# EAGLE library part 25LC1024 (library SMARTBALL_v1)
Microship 25LC1024 1Mbit SPI EEPROM
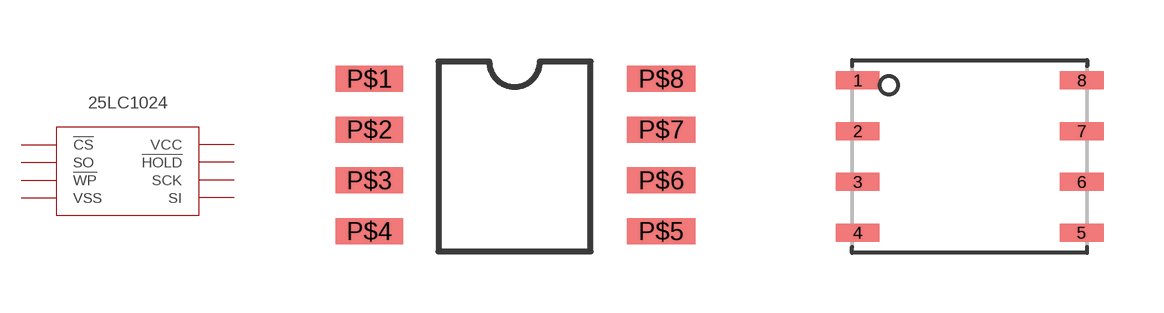
[diagram p1: symbol with the pads of 25LC1024-SOIJ; footprints 25LC1024-SOIJ, DFN-S]

Designator prefix -

## 25LC1024  [25LC1024-SOIJ]
P$1  !CS
P$2  SO
P$3  !WP
P$4  VSS
P$5  SI
P$6  SCK
P$7  !HOLD
P$8  VCC

## 25LC1024DFN-S  [DFN-S]
1  !CS
2  SO
3  !WP
4  VSS
5  SI
6  SCK
7  !HOLD
8  VCC

## Footprint 25LC1024-SOIJ (pad centres in mm)
25LC1024 SOIJ Package
smd 1.7 x 0.65: P$1 -3.607,1.905; P$2 -3.607,0.635; P$3 -3.607,-0.635; P$4 -3.607,-1.905; P$5 3.693,-1.905; P$6 3.693,-0.635; P$7 3.693,0.635; P$8 3.693,1.905

## Footprint DFN-S (pad centres in mm)
8-Lead Plastic Dual Flat No Lead Package (MF) 6x5 mm Body (DFN-S) Source: http://www.microchip.com .. 41190c.pdf
smd 1.1 x 0.45: 1 -2.8,1.905; 2 -2.8,0.635; 3 -2.8,-0.635; 4 -2.8,-1.905; 5 2.8,-1.905; 6 2.8,-0.635; 7 2.8,0.635; 8 2.8,1.905